# EAGLE library part PIC16F1823* (library Parts)
14-Pin Flash Microcontrollers ・プログラムメモリ：２Ｋワード ・ＲＡＭ：１２８バイト ・ＥＥＰＲＯＭ：２５６バイト ・Ｉ／Ｏ：最大１２本 ・ＡＤコンバータ：１０ビットｘ８ｃｈ ・コンパレータ：２ｃｈ ・タイマー：８ビットｘ２，１６ビットｘ１ ・電源電圧：１．８Ｖ（１６ＭＨｚ ＭＡＸ）～５．５Ｖ（３２ＭＨｚ ＭＡＸ） ・動作クロック：３２ＭＨｚ ＭＡＸ
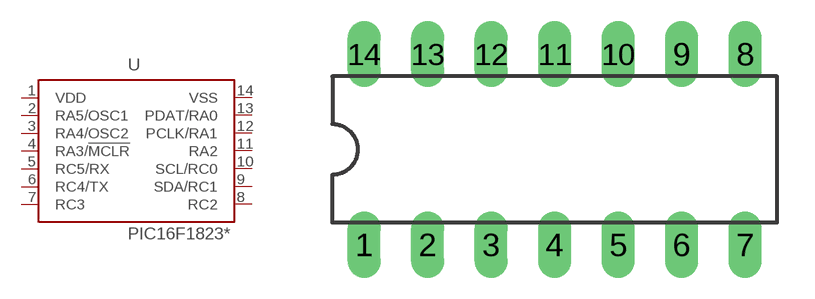
[diagram p3: symbol with the pads of DIL14; footprint DIL14]

Designator prefix U

## PIC16F1823-I/P  [DIL14]
1  VDD  pas
2  RA5/OSC1
3  RA4/OSC2
4  RA3/!MCLR!
5  RC5/RX
6  RC4/TX
7  RC3
8  RC2
9  SDA/RC1
10  SCL/RC0
11  RA2
12  PCLK/RA1
13  PDAT/RA0
14  VSS  pas

## Footprint DIL14 (pad centres in mm)
Dual In Line Package
drill 0.813 long: 1 -7.62,-3.81; 2 -5.08,-3.81; 3 -2.54,-3.81; 4 0,-3.81; 5 2.54,-3.81; 6 5.08,-3.81; 7 7.62,-3.81; 8 7.62,3.81; 9 5.08,3.81; 10 2.54,3.81; 11 0,3.81; 12 -2.54,3.81; 13 -5.08,3.81; 14 -7.62,3.81